# Altium schematic symbol library PreciseResistors (FR).SchLib: 23 symbols
Pins are listed as number, name and electrical type; pins without a type are passive.

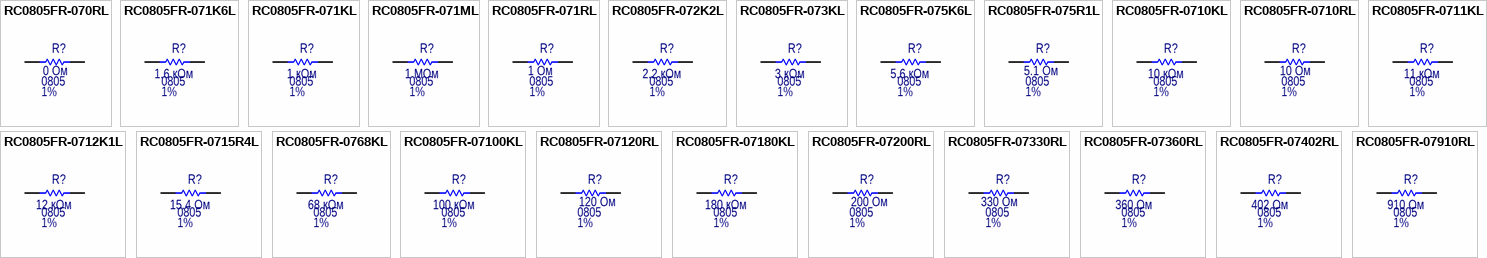
[diagram p0: symbols RC0805FR-070RL to RC0805FR-07910RL]

## RC0805FR-070RL
designator R?  value 0 Ом  Tolerance: 1%  Case: 0805  (hidden comment: RC0805FR-070RL)
footprint RES0805
pins: 1, 2

## RC0805FR-071K6L
designator R?  value 1.6 кОм  Tolerance: 1%  Case: 0805  (hidden comment: RC0805FR-071K6L)
footprint RES0805
pins: 1, 2

## RC0805FR-071KL
designator R?  value 1 кОм  Tolerance: 1%  Case: 0805  (hidden comment: RC0805FR-071KL)
footprint RES0805
pins: 1, 2

## RC0805FR-071ML
designator R?  value 1 МОм  Tolerance: 1%  Case: 0805  (hidden comment: RC0805FR-071ML)
footprint RES0805
pins: 1, 2

## RC0805FR-071RL
designator R?  value 1 Ом  Tolerance: 1%  Case: 0805  (hidden comment: RC0805FR-071RL)
footprint RES0805
pins: 1, 2

## RC0805FR-072K2L
designator R?  value 2.2 кОм  Tolerance: 1%  Case: 0805  (hidden comment: RC0805FR-072K2L)
footprint RES0805
pins: 1, 2

## RC0805FR-073KL
designator R?  value 3 кОм  Tolerance: 1%  Case: 0805  (hidden comment: RC0805FR-073KL)
footprint RES0805
pins: 1, 2

## RC0805FR-075K6L
designator R?  value 5.6 кОм  Tolerance: 1%  Case: 0805  (hidden comment: RC0805FR-075K6L)
footprint RES0805
pins: 1, 2

## RC0805FR-075R1L
designator R?  value 5.1 Ом  Tolerance: 1%  Case: 0805  (hidden comment: RC0805FR-075R1L)
footprint RES0805
pins: 1, 2

## RC0805FR-0710KL
designator R?  value 10 кОм  Tolerance: 1%  Case: 0805  (hidden comment: RC0805FR-0710KL)
footprint RES0805
pins: 1, 2

## RC0805FR-0710RL
designator R?  value 10 Ом  Tolerance: 1%  Case: 0805  (hidden comment: RC0805FR-0710RL)
footprint RES0805
pins: 1, 2

## RC0805FR-0711KL
designator R?  value 11 кОм  Tolerance: 1%  Case: 0805  (hidden comment: RC0805FR-0711KL)
footprint RES0805
pins: 1, 2

## RC0805FR-0712K1L
designator R?  value 12 кОм  Tolerance: 1%  Case: 0805  (hidden comment: RC0805FR-0712K1L)
footprint RES0805
pins: 1, 2

## RC0805FR-0715R4L
designator R?  value 15.4 Ом  Tolerance: 1%  Case: 0805  (hidden comment: RC0805FR-0715R4L)
footprint RES0805
pins: 1, 2

## RC0805FR-0768KL
designator R?  value 68 кОм  Tolerance: 1%  Case: 0805  (hidden comment: RC0805FR-0768KL)
footprint RES0805
pins: 1, 2

## RC0805FR-07100KL
designator R?  value 100 кОм  Tolerance: 1%  Case: 0805  (hidden comment: RC0805FR-07100KL)
footprint RES0805
pins: 1, 2

## RC0805FR-07120RL
designator R?  value 120 Ом  Tolerance: 1%  Case: 0805  (hidden comment: RC0805FR-07120RL)
footprint RES0805
pins: 1, 2

## RC0805FR-07180KL
designator R?  value 180 кОм  Tolerance: 1%  Case: 0805  (hidden comment: RC0805FR-07180KL)
footprint RES0805
pins: 1, 2

## RC0805FR-07200RL
designator R?  value 200 Ом  Tolerance: 1%  Case: 0805  (hidden comment: RC0805FR-07200RL)
footprint RES0805
pins: 1, 2

## RC0805FR-07330RL
designator R?  value 330 Ом  Tolerance: 1%  Case: 0805  (hidden comment: RC0805FR-07330RL)
footprint RES0805
pins: 1, 2

## RC0805FR-07360RL
designator R?  value 360 Ом  Tolerance: 1%  Case: 0805  (hidden comment: RC0805FR-07360RL)
footprint RES0805
pins: 1, 2

## RC0805FR-07402RL
designator R?  value 402 Ом  Tolerance: 1%  Case: 0805  (hidden comment: RC0805FR-07402RL)
footprint RES0805
pins: 1, 2

## RC0805FR-07910RL
designator R?  value 910 Ом  Tolerance: 1%  Case: 0805  (hidden comment: RC0805FR-07910RL)
footprint RES0805
pins: 1, 2